# Altium footprint library USB_MINI_VERT_TH.PcbLib: 1 footprints
Each footprint in its own frame and in the unit in brackets; x right, y up, seen from the top. Pads: shape width x height; smd on the part's side, far side on the other; paste and mask are expansions set on the pad; w line width, h text height; cw(c..) or ccw(c..) is an arc to the next point about the centre after c.
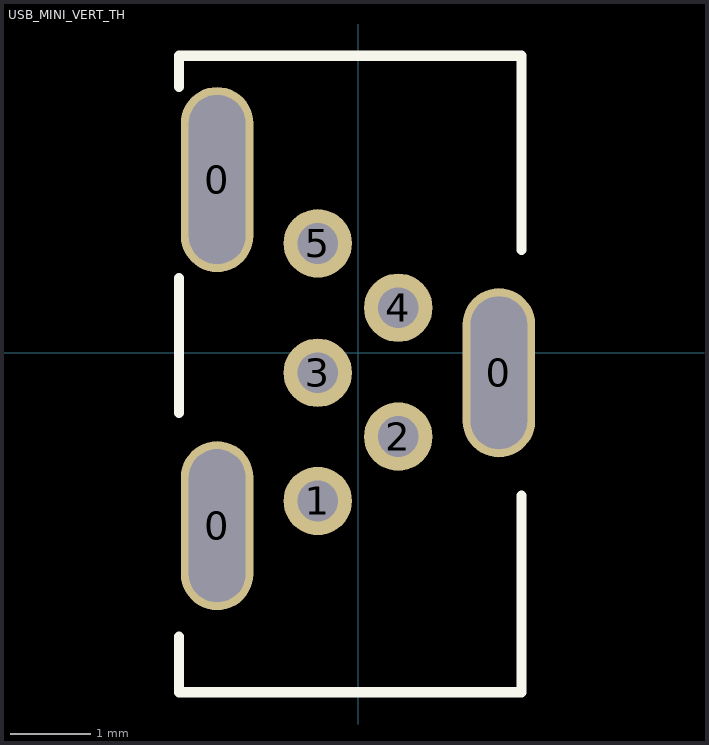
[diagram p0: the footprint, top view; thin cyan lines are the x and y axes]

## USB_MINI_VERT_TH [mm] "CONN RCPT USB2.0 MINI B VERT"
pads (8):
  oval 0.9x2.1 hole 0.7 slot 1.9 at 90 deg: 0(-1.75,-2.15) 0(1.75,-0.25)
  oval 0.9x2.3 hole 0.7 slot 2.1 at 90 deg: 0(-1.75,2.15)
  round 0.85 hole 0.508: 1(-0.5,-1.843) 2(0.5,-1.043) 3(-0.5,-0.25) 4(0.5,0.557) 5(-0.5,1.357)
Top Overlay:
  lines w0.127: -2.225,-3.525 -2.225,-4.218 2.032,-4.218 2.032,-1.774 ; -2.225,-0.75 -2.225,0.925 ; -2.225,3.3 -2.225,3.687 2.032,3.687 2.032,1.274
3D body "c-1734753-1-a-3d.stp": height 9, standoff -2.3, extent -2.14,-4.1 1.95,3.6